# EAGLE library part SWITCH_SMALL_LR (library Rohit_Libs)
Part By: Rohit Gupta
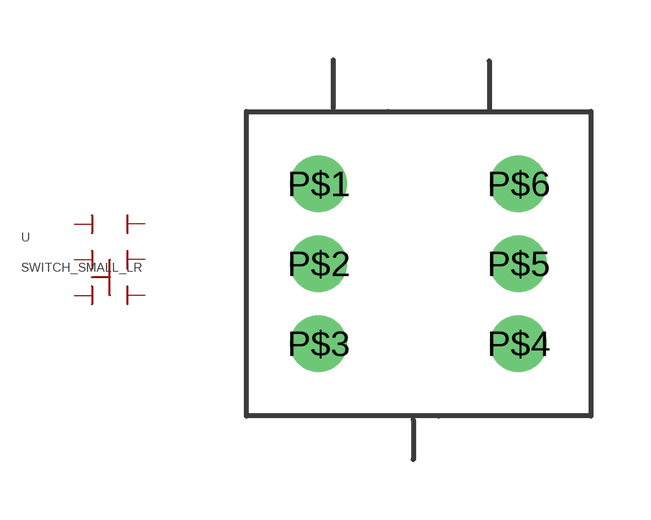
[diagram p4: symbol with the pads of SMALL_SWITCH; footprint SMALL_SWITCH]

Designator prefix -

## SWITCH_SMALL_LR  [SMALL_SWITCH]
P$1  1
P$2  2
P$3  3
P$4  4
P$5  5
P$6  6

## Footprint SMALL_SWITCH (pad centres in mm)
drill 0.7 pad 1.422 round: P$1 -2.365,2; P$2 -2.365,0; P$3 -2.365,-2; P$4 2.635,-2; P$5 2.635,0; P$6 2.635,2